# Altium footprint library Yi Ping_PcbLib.PcbLib: 5 footprints
Each footprint in its own frame and in the unit in brackets; x right, y up, seen from the top. Pads: shape width x height; smd on the part's side, far side on the other; paste and mask are expansions set on the pad; w line width, h text height; cw(c..) or ccw(c..) is an arc to the next point about the centre after c.
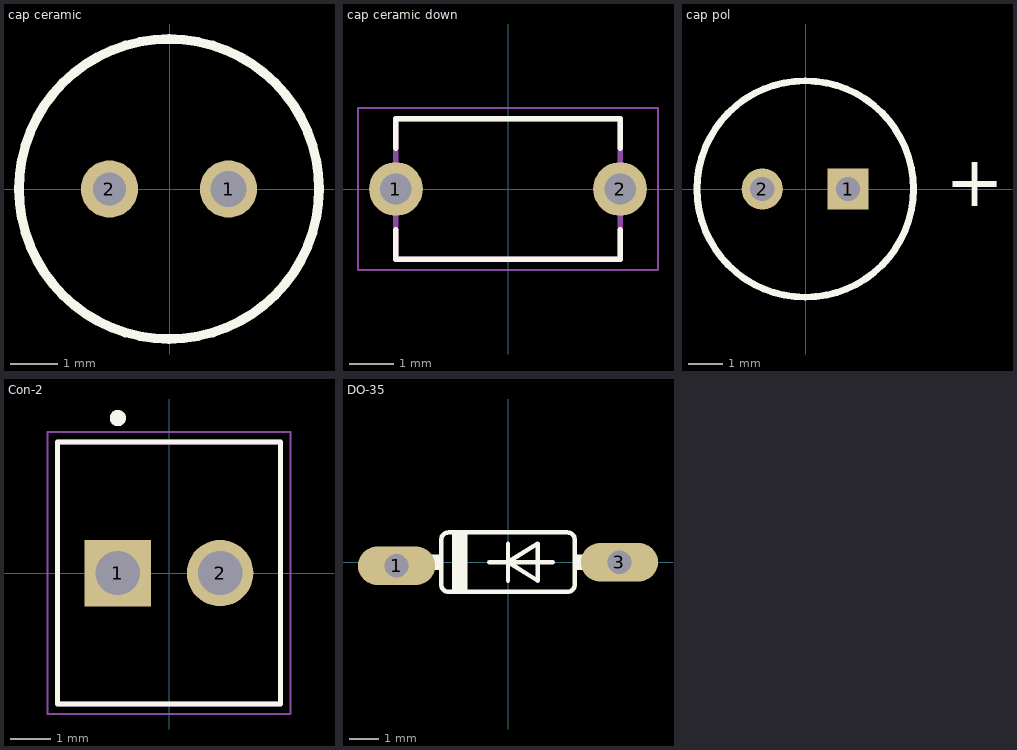
[diagram p0: the footprints below, top view; thin cyan lines are the x and y axes]

## cap ceramic [mm]
pads (2):
  round 1.2 hole 0.762: 1(1.23,0)
  round 1.2 hole 0.7: 2(-1.27,0)
Top Overlay:
  circle w0.2: c-0.02,0 r3.15

## cap ceramic down [mm]
pads (2):
  round 1.218 hole 0.71: 1(-2.54,0) 2(2.54,0)
Top Overlay:
  lines w0.127: -2.54,-0.929 -2.54,-1.587 2.54,-1.587 2.54,-0.929 ; -2.54,0.929 -2.54,1.587 2.54,1.587 2.54,0.929
Mechanical 13:
  lines w0.127: -2.54,-1.587 -2.54,1.587 2.54,1.587 2.54,-1.587 -2.54,-1.587
Mechanical 15:
  lines w0.05: -3.399,-1.837 -3.399,1.837 3.399,1.837 3.399,-1.837 -3.399,-1.837
3D body "step_temp.STEP": height 5.86, standoff -7.62, extent -2.794,-1.587 2.794,1.587

## cap pol [mm]
pads (2):
  rect 1.2x1.2 hole 0.7: 1(1.23,0)
  round 1.2 hole 0.7: 2(-1.27,0)
Top Overlay:
  circle w0.2: c-0.02,0 r3.15
  text "+" at 4.064,-0.508 h1.5
3D body "capacitor_lekr47m50v511.stp": height 11, standoff -20, extent -2.373,-2.587 2.627,2.413

## Con-2 [mm]
pads (2):
  rect 1.65x1.65 hole 1.1: 1(-1.27,0)
  round 1.65 hole 1.1: 2(1.27,0)
Top Overlay:
  circle w0.2: c-1.27,3.85 r0.1
  lines w0.127: -2.77,-3.25 2.77,-3.25 2.77,3.25 -2.77,3.25 -2.77,-3.25
Mechanical 13:
  circle w0.2: c-1.27,3.85 r0.1
  lines w0.127: -2.77,-3.25 2.77,-3.25 2.77,3.25 -2.77,3.25 -2.77,-3.25
Mechanical 15:
  lines w0.05: -3.02,-3.5 3.02,-3.5 3.02,3.5 -3.02,3.5 -3.02,-3.5
3D body "1546215-2--3DModel-STEP-1.STEP": height 10, standoff -3.4, extent -2.529,-3.325 2.921,3.175

## DO-35 [mil]
pads (2):
  oval 104x52 hole 32: 1(-150,-5) 3(150,0)
Top Overlay:
  region: -55,-40 -75,-40 -75,40 -55,40
  region: 135,-10 90,-10 90,10 135,10
  region: -90,-10 -135,-10 -135,10 -90,10
  lines w6: -25,0 0,0 ; 0,-25 0,0 ; 0,25 0,0 ; 60,0 0,0 ; 0,0 40,-25 40,25 0,0 ; -90,-30 ccw(c-80,-30) -80,-40 80,-40 ccw(c80,-30) 90,-30 90,30 ccw(c80,30) 80,40 -80,40 ccw(c-80,30) -90,30 -90,-30
3D body "User Library-DO-204AH (DO-35).step": height 86.72, standoff -70.87, extent -160.24,-39.76 160.24,39.76